# EAGLE library part HR911105A (library ds_con)
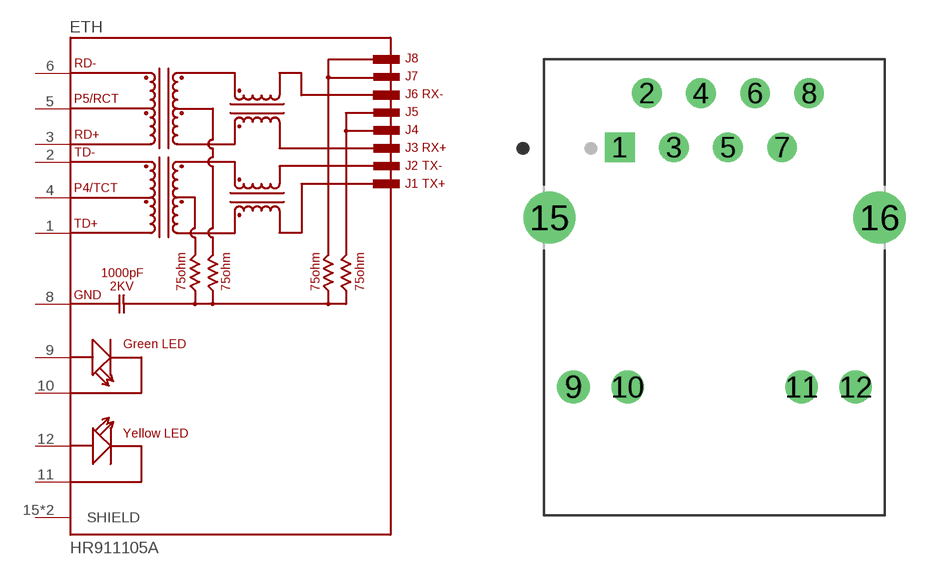
[diagram p5: symbol with the pads of HR911105A; footprint HR911105A]

Designator prefix ETH

## HR911105A  [HR911105A]
1  TD+  pas
2  TD-  pas
3  RD+  pas
4  P4/TCT  pas
5  P5/RCT  pas
6  RD-  pas
8  GND  pwr
9  GREEN+  pas
10  GREEN-  pas
11  YELLOW-  pas
12  YELLOW+  pas
15  SHIELD  pas
16  SHIELD  pas

## Footprint HR911105A (pad centres in mm)
drill 0.89 square: 1 -4.45,6.35
drill 0.89: 2 -3.18,8.89; 3 -1.91,6.35; 4 -0.64,8.89; 5 0.63,6.35; 6 1.9,8.89; 7 3.17,6.35; 8 4.44,8.89
drill 1.02: 9 -6.625,-4.9; 10 -4.085,-4.9; 11 4.085,-4.9; 12 6.625,-4.9
drill 1.63: 15 -7.745,3.05; 16 7.745,3.05